# EAGLE library part ADM3202ARN (library chip)
ANALOG DEVICES ADM3202 Low Power, 3.3 V, RS-232 Line Drivers/Receivers datasheet <http://www.analog.com/media/en/technical-documentation/data-sheets/ADM3202_3222_1385.pdf>
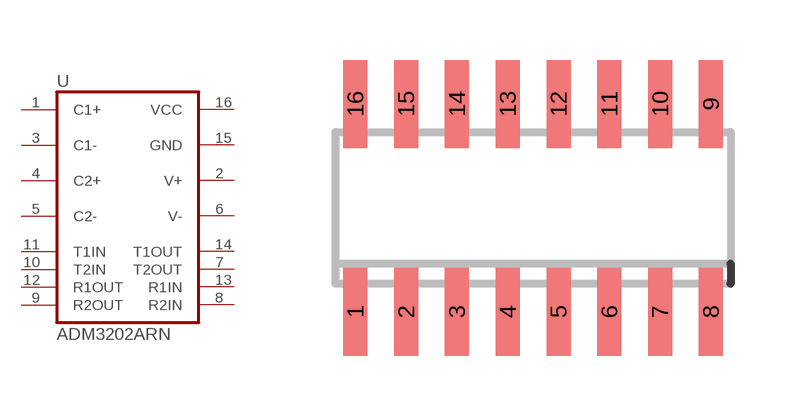
[diagram p0: symbol with the pads of SOIC16N; footprint SOIC16N]

Designator prefix -

## ADM3202ARN  [SOIC16N]
1  C1+
2  V+
3  C1-
4  C2+
5  C2-
6  V-
7  T2OUT  out
8  R2IN  in
9  R2OUT  out
10  T2IN  in
11  T1IN  in
12  R1OUT  out
13  R1IN  in
14  T1OUT  out
15  GND  pwr
16  VCC  pwr

## Footprint SOIC16N (pad centres in mm)
smd 0.6 x 2.2: 1 -4.445,-2.6; 2 -3.175,-2.6; 3 -1.905,-2.6; 4 -0.635,-2.6; 5 0.635,-2.6; 6 1.905,-2.6; 7 3.175,-2.6; 8 4.445,-2.6; 9 4.445,2.6; 10 3.175,2.6; 11 1.905,2.6; 12 0.635,2.6; 13 -0.635,2.6; 14 -1.905,2.6; 15 -3.175,2.6; 16 -4.445,2.6